# Altium integrated library Micron Memory SDRAM.IntLib: 192 symbols (part 13 of 38)
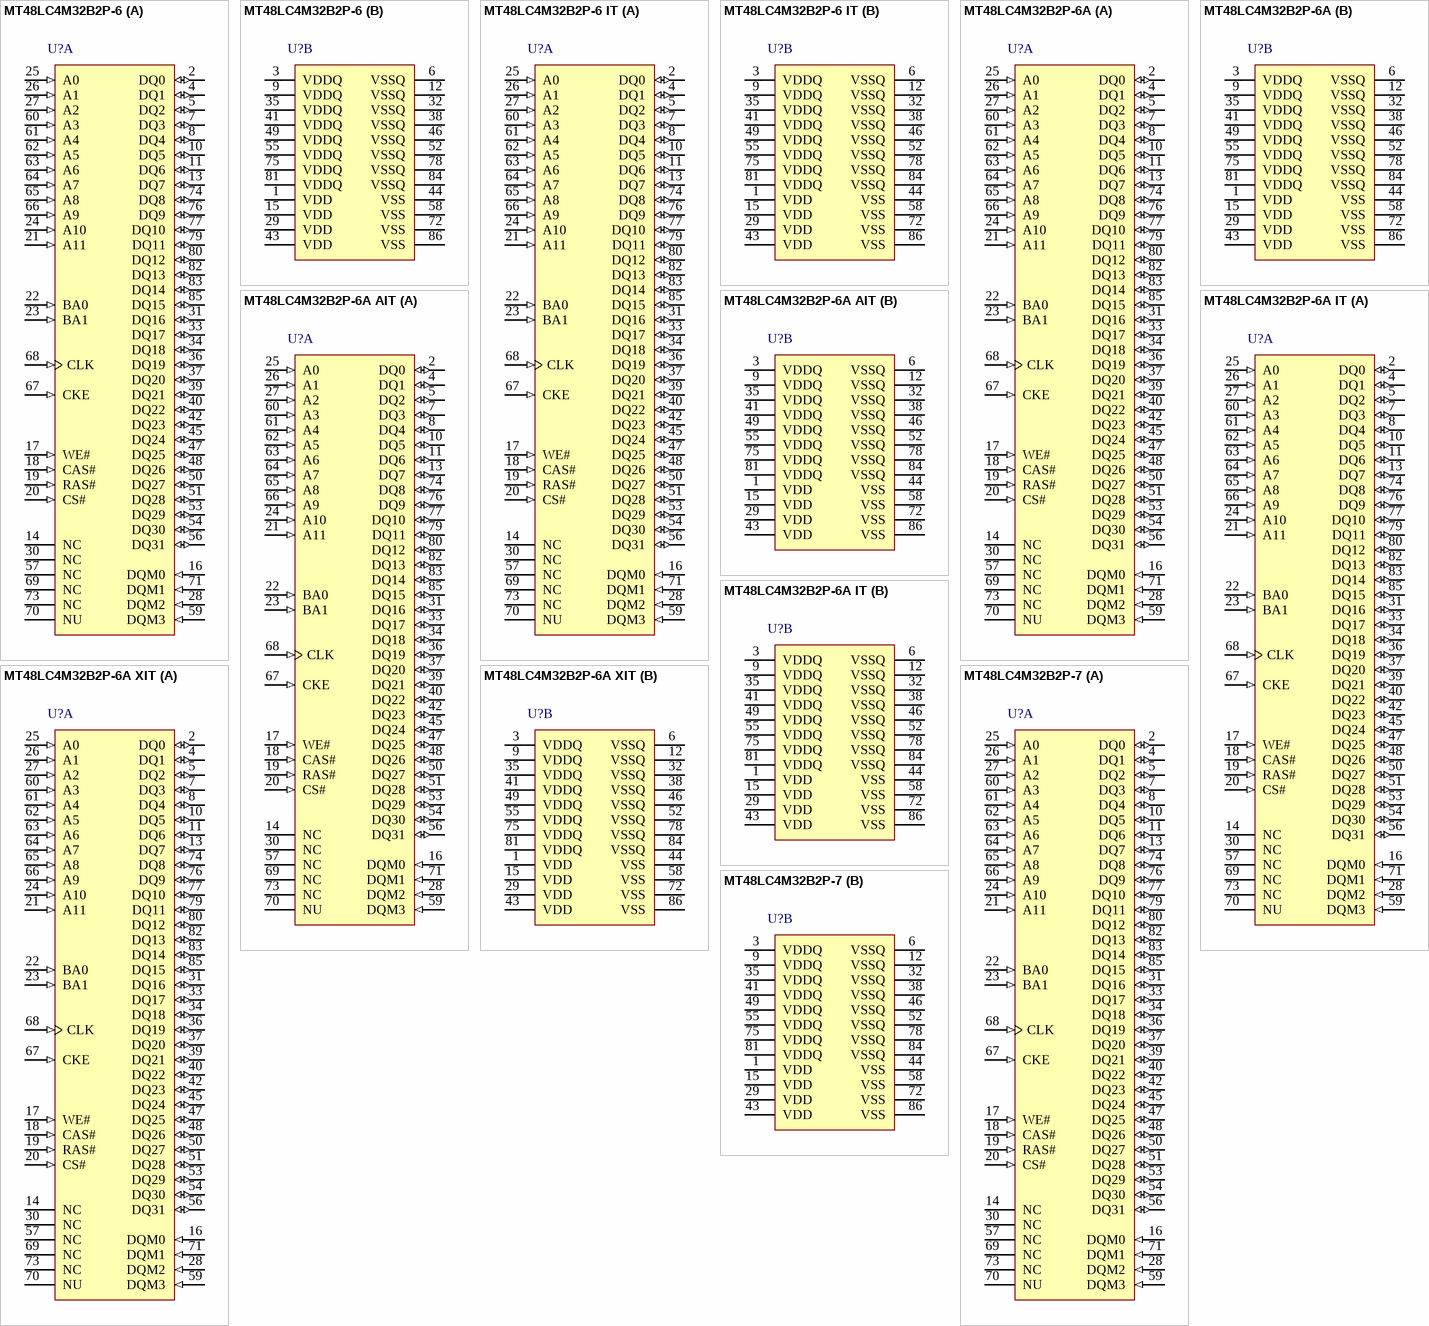
[diagram p32: symbols MT48LC4M32B2P-6 to MT48LC4M32B2P-7]

## MT48LC4M32B2P-6
designator U?
128Mb PC133 SDR SDRAM, 4Mb x 32, 6ns, 3.3V, 0 to 70 degC, 86-Pin TSOP, Pb-Free; Manufacturer: Micron; PartNumber: MT48LC4M32B2P-6; CL: CL = 3; Clock Rate: 167 MHz; Op. Temp.: 0C to +70C; DatasheetVersion: Rev.Q; PackageVersion: Rev.Q; PackageReference: MICT-P-86; PackageDescription: 86-PinThin Small Outline Package, 10.16 x 22.22 mm, Pitch 0.5 mm; Cycle Time: 6ns; Data Rate: PC133; Density: 128Mb; Depth: 4Mb; RoHS: Yes; Voltage: 3.3V; Width: x32; Mounting Technology: Surface Mount; ComponentLink1Description: Manufacturer URL; ComponentLink1URL: http://www.micron.com/; ComponentLink2Description: Datasheet; ComponentLink2URL: http://www.micron.com/~/media/Documents/Products/Data%20Sheet/DRAM/128mb_x32_sdram.pdf; ComponentLink3Description: Package Specification; ComponentLink3URL: http://www.micron.com/~/media/Documents/Products/Data%20Sheet/DRAM/128mb_x32_sdram.pdf
footprint MICT-P-86_N (SOP, 86-Leads, Body 22.22x10.6mm, Pitch 0.5mm, , IPC Medium Density)
part A pins: 2 DQ0 (io) "Data input/output: Data bus.", 4 DQ1 (io) "Data input/output: Data bus.", 5 DQ2 (io) "Data input/output: Data bus.", 7 DQ3 (io) "Data input/output: Data bus.", 8 DQ4 (io) "Data input/output: Data bus.", 10 DQ5 (io) "Data input/output: Data bus.", 11 DQ6 (io) "Data input/output: Data bus.", 13 DQ7 (io) "Data input/output: Data bus.", 14 NC "No connect: These pins should be left unconnected. Pin 70 is reserved for SSTL reference voltage supply.", 16 DQM0 (in) "Input/output mask: DQM is sampled HIGH and is an input mask signal for write accesses and an output enable signal for read accesses. Input data is masked during a WRITE cycle. The output buffers are High-Z (two-clock (See Datasheet)", 17 WE# (in) "Command inputs: CAS#, RAS#, and WE# (along with CS#) define the command being entered.", 18 CAS# (in) "Command inputs: CAS#, RAS#, and WE# (along with CS#) define the command being entered.", 19 RAS# (in) "Command inputs: CAS#, RAS#, and WE# (along with CS#) define the command being entered.", 20 CS# (in) "Command inputs: CAS#, RAS#, and WE# (along with CS#) define the command being entered.", 21 A11 (in) "Address inputs: A[11:0] are sampled during the ACTIVE command (row address A[10:0]) and READ or WRITE command (column address A[7:0] with A10 defining auto precharge) to select one location out of the memory array in the (See Datasheet)", 22 BA0 (in) "Bank address inputs: BA[1:0] define to which bank the ACTIVE, READ, WRITE, or PRECHARGE command is being applied.", 23 BA1 (in) "Bank address inputs: BA[1:0] define to which bank the ACTIVE, READ, WRITE, or PRECHARGE command is being applied.", 24 A10 (in) "Address inputs: A[11:0] are sampled during the ACTIVE command (row address A[10:0]) and READ or WRITE command (column address A[7:0] with A10 defining auto precharge) to select one location out of the memory array in the (See Datasheet)", 25 A0 (in) "Address inputs: A[11:0] are sampled during the ACTIVE command (row address A[10:0]) and READ or WRITE command (column address A[7:0] with A10 defining auto precharge) to select one location out of the memory array in the (See Datasheet)", 26 A1 (in) "Address inputs: A[11:0] are sampled during the ACTIVE command (row address A[10:0]) and READ or WRITE command (column address A[7:0] with A10 defining auto precharge) to select one location out of the memory array in the (See Datasheet)", 27 A2 (in) "Address inputs: A[11:0] are sampled during the ACTIVE command (row address A[10:0]) and READ or WRITE command (column address A[7:0] with A10 defining auto precharge) to select one location out of the memory array in the (See Datasheet)", 28 DQM2 (in) "Input/output mask: DQM is sampled HIGH and is an input mask signal for write accesses and an output enable signal for read accesses. Input data is masked during a WRITE cycle. The output buffers are High-Z (two-clock (See Datasheet)", 30 NC "No connect: These pins should be left unconnected. Pin 70 is reserved for SSTL reference voltage supply.", 31 DQ16 (io) "Data input/output: Data bus.", 33 DQ17 (io) "Data input/output: Data bus.", 34 DQ18 (io) "Data input/output: Data bus.", 36 DQ19 (io) "Data input/output: Data bus.", 37 DQ20 (io) "Data input/output: Data bus.", 39 DQ21 (io) "Data input/output: Data bus.", 40 DQ22 (io) "Data input/output: Data bus.", 42 DQ23 (io) "Data input/output: Data bus.", 45 DQ24 (io) "Data input/output: Data bus.", 47 DQ25 (io) "Data input/output: Data bus.", 48 DQ26 (io) "Data input/output: Data bus.", 50 DQ27 (io) "Data input/output: Data bus.", 51 DQ28 (io) "Data input/output: Data bus.", 53 DQ29 (io) "Data input/output: Data bus.", 54 DQ30 (io) "Data input/output: Data bus.", 56 DQ31 (io) "Data input/output: Data bus.", 57 NC "No connect: These pins should be left unconnected. Pin 70 is reserved for SSTL reference voltage supply.", 59 DQM3 (in) "Input/output mask: DQM is sampled HIGH and is an input mask signal for write accesses and an output enable signal for read accesses. Input data is masked during a WRITE cycle. The output buffers are High-Z (two-clock (See Datasheet)", 60 A3 (in) "Address inputs: A[11:0] are sampled during the ACTIVE command (row address A[10:0]) and READ or WRITE command (column address A[7:0] with A10 defining auto precharge) to select one location out of the memory array in the (See Datasheet)", 61 A4 (in) "Address inputs: A[11:0] are sampled during the ACTIVE command (row address A[10:0]) and READ or WRITE command (column address A[7:0] with A10 defining auto precharge) to select one location out of the memory array in the (See Datasheet)", 62 A5 (in) "Address inputs: A[11:0] are sampled during the ACTIVE command (row address A[10:0]) and READ or WRITE command (column address A[7:0] with A10 defining auto precharge) to select one location out of the memory array in the (See Datasheet)", 63 A6 (in) "Address inputs: A[11:0] are sampled during the ACTIVE command (row address A[10:0]) and READ or WRITE command (column address A[7:0] with A10 defining auto precharge) to select one location out of the memory array in the (See Datasheet)", 64 A7 (in) "Address inputs: A[11:0] are sampled during the ACTIVE command (row address A[10:0]) and READ or WRITE command (column address A[7:0] with A10 defining auto precharge) to select one location out of the memory array in the (See Datasheet)", 65 A8 (in) "Address inputs: A[11:0] are sampled during the ACTIVE command (row address A[10:0]) and READ or WRITE command (column address A[7:0] with A10 defining auto precharge) to select one location out of the memory array in the (See Datasheet)", 66 A9 (in) "Address inputs: A[11:0] are sampled during the ACTIVE command (row address A[10:0]) and READ or WRITE command (column address A[7:0] with A10 defining auto precharge) to select one location out of the memory array in the (See Datasheet)", 67 CKE (in) "Clock enable: CKE activates (HIGH) and deactivates (LOW) the CLK signal. Deactivating the clock provides precharge power-down and SELF REFRESH operation (all banks idle), active power-down (row active in any bank), or CLOCK (See Datasheet)", 68 CLK (in) "Clock: CLK is driven by the system clock. All SDRAM input signals are sampled on the positive edge of CLK. CLK also increments the internal burst counter and controls the output registers.", 69 NC "No connect: These pins should be left unconnected. Pin 70 is reserved for SSTL reference voltage supply.", 70 NU "Not Used", 71 DQM1 (in) "Input/output mask: DQM is sampled HIGH and is an input mask signal for write accesses and an output enable signal for read accesses. Input data is masked during a WRITE cycle. The output buffers are High-Z (two-clock (See Datasheet)", 73 NC "No connect: These pins should be left unconnected. Pin 70 is reserved for SSTL reference voltage supply.", 74 DQ8 (io) "Data input/output: Data bus.", 76 DQ9 (io) "Data input/output: Data bus.", 77 DQ10 (io) "Data input/output: Data bus.", 79 DQ11 (io) "Data input/output: Data bus.", 80 DQ12 (io) "Data input/output: Data bus.", 82 DQ13 (io) "Data input/output: Data bus.", 83 DQ14 (io) "Data input/output: Data bus.", 85 DQ15 (io) "Data input/output: Data bus."
part B pins: 1 VDD (power) "Power supply: 3.3V +/-0.3V.", 3 VDDQ (power) "DQ power supply: Isolated on the die for improved noise immunity.", 6 VSSQ (power) "DQ ground: Provides isolated ground to DQs for improved noise immunity.", 9 VDDQ (power) "DQ power supply: Isolated on the die for improved noise immunity.", 12 VSSQ (power) "DQ ground: Provides isolated ground to DQs for improved noise immunity.", 15 VDD (power) "Power supply: 3.3V +/-0.3V.", 29 VDD (power) "Power supply: 3.3V +/-0.3V.", 32 VSSQ (power) "DQ ground: Provides isolated ground to DQs for improved noise immunity.", 35 VDDQ (power) "DQ power supply: Isolated on the die for improved noise immunity.", 38 VSSQ (power) "DQ ground: Provides isolated ground to DQs for improved noise immunity.", 41 VDDQ (power) "DQ power supply: Isolated on the die for improved noise immunity.", 43 VDD (power) "Power supply: 3.3V +/-0.3V.", 44 VSS (power) "Ground.", 46 VSSQ (power) "DQ ground: Provides isolated ground to DQs for improved noise immunity.", 49 VDDQ (power) "DQ power supply: Isolated on the die for improved noise immunity.", 52 VSSQ (power) "DQ ground: Provides isolated ground to DQs for improved noise immunity.", 55 VDDQ (power) "DQ power supply: Isolated on the die for improved noise immunity.", 58 VSS (power) "Ground.", 72 VSS (power) "Ground.", 75 VDDQ (power) "DQ power supply: Isolated on the die for improved noise immunity.", 78 VSSQ (power) "DQ ground: Provides isolated ground to DQs for improved noise immunity.", 81 VDDQ (power) "DQ power supply: Isolated on the die for improved noise immunity.", 84 VSSQ (power) "DQ ground: Provides isolated ground to DQs for improved noise immunity.", 86 VSS (power) "Ground."

## MT48LC4M32B2P-6 IT
designator U?
128Mb PC133 SDR SDRAM, 4Mb x 32, 6ns, 3.3V, -40 to 85 degC, 86-Pin TSOP, Pb-Free; Manufacturer: Micron; PartNumber: MT48LC4M32B2P-6 IT; CL: CL = 3; Clock Rate: 166 MHz; Op. Temp.: -40C to +85C; DatasheetVersion: Rev.Q; PackageVersion: Rev.Q; PackageReference: MICT-P-86; PackageDescription: 86-PinThin Small Outline Package, 10.16 x 22.22 mm, Pitch 0.5 mm; Cycle Time: 6ns; Data Rate: PC133; Density: 128Mb; Depth: 4Mb; RoHS: Yes; Voltage: 3.3V; Width: x32; Mounting Technology: Surface Mount; ComponentLink1Description: Manufacturer URL; ComponentLink1URL: http://www.micron.com/; ComponentLink2Description: Datasheet; ComponentLink2URL: http://www.micron.com/~/media/Documents/Products/Data%20Sheet/DRAM/128mb_x32_sdram.pdf; ComponentLink3Description: Package Specification; ComponentLink3URL: http://www.micron.com/~/media/Documents/Products/Data%20Sheet/DRAM/128mb_x32_sdram.pdf
footprint MICT-P-86_N (SOP, 86-Leads, Body 22.22x10.6mm, Pitch 0.5mm, , IPC Medium Density)
part A pins: 2 DQ0 (io) "Data input/output: Data bus.", 4 DQ1 (io) "Data input/output: Data bus.", 5 DQ2 (io) "Data input/output: Data bus.", 7 DQ3 (io) "Data input/output: Data bus.", 8 DQ4 (io) "Data input/output: Data bus.", 10 DQ5 (io) "Data input/output: Data bus.", 11 DQ6 (io) "Data input/output: Data bus.", 13 DQ7 (io) "Data input/output: Data bus.", 14 NC "No connect: These pins should be left unconnected. Pin 70 is reserved for SSTL reference voltage supply.", 16 DQM0 (in) "Input/output mask: DQM is sampled HIGH and is an input mask signal for write accesses and an output enable signal for read accesses. Input data is masked during a WRITE cycle. The output buffers are High-Z (two-clock (See Datasheet)", 17 WE# (in) "Command inputs: CAS#, RAS#, and WE# (along with CS#) define the command being entered.", 18 CAS# (in) "Command inputs: CAS#, RAS#, and WE# (along with CS#) define the command being entered.", 19 RAS# (in) "Command inputs: CAS#, RAS#, and WE# (along with CS#) define the command being entered.", 20 CS# (in) "Command inputs: CAS#, RAS#, and WE# (along with CS#) define the command being entered.", 21 A11 (in) "Address inputs: A[11:0] are sampled during the ACTIVE command (row address A[10:0]) and READ or WRITE command (column address A[7:0] with A10 defining auto precharge) to select one location out of the memory array in the (See Datasheet)", 22 BA0 (in) "Bank address inputs: BA[1:0] define to which bank the ACTIVE, READ, WRITE, or PRECHARGE command is being applied.", 23 BA1 (in) "Bank address inputs: BA[1:0] define to which bank the ACTIVE, READ, WRITE, or PRECHARGE command is being applied.", 24 A10 (in) "Address inputs: A[11:0] are sampled during the ACTIVE command (row address A[10:0]) and READ or WRITE command (column address A[7:0] with A10 defining auto precharge) to select one location out of the memory array in the (See Datasheet)", 25 A0 (in) "Address inputs: A[11:0] are sampled during the ACTIVE command (row address A[10:0]) and READ or WRITE command (column address A[7:0] with A10 defining auto precharge) to select one location out of the memory array in the (See Datasheet)", 26 A1 (in) "Address inputs: A[11:0] are sampled during the ACTIVE command (row address A[10:0]) and READ or WRITE command (column address A[7:0] with A10 defining auto precharge) to select one location out of the memory array in the (See Datasheet)", 27 A2 (in) "Address inputs: A[11:0] are sampled during the ACTIVE command (row address A[10:0]) and READ or WRITE command (column address A[7:0] with A10 defining auto precharge) to select one location out of the memory array in the (See Datasheet)", 28 DQM2 (in) "Input/output mask: DQM is sampled HIGH and is an input mask signal for write accesses and an output enable signal for read accesses. Input data is masked during a WRITE cycle. The output buffers are High-Z (two-clock (See Datasheet)", 30 NC "No connect: These pins should be left unconnected. Pin 70 is reserved for SSTL reference voltage supply.", 31 DQ16 (io) "Data input/output: Data bus.", 33 DQ17 (io) "Data input/output: Data bus.", 34 DQ18 (io) "Data input/output: Data bus.", 36 DQ19 (io) "Data input/output: Data bus.", 37 DQ20 (io) "Data input/output: Data bus.", 39 DQ21 (io) "Data input/output: Data bus.", 40 DQ22 (io) "Data input/output: Data bus.", 42 DQ23 (io) "Data input/output: Data bus.", 45 DQ24 (io) "Data input/output: Data bus.", 47 DQ25 (io) "Data input/output: Data bus.", 48 DQ26 (io) "Data input/output: Data bus.", 50 DQ27 (io) "Data input/output: Data bus.", 51 DQ28 (io) "Data input/output: Data bus.", 53 DQ29 (io) "Data input/output: Data bus.", 54 DQ30 (io) "Data input/output: Data bus.", 56 DQ31 (io) "Data input/output: Data bus.", 57 NC "No connect: These pins should be left unconnected. Pin 70 is reserved for SSTL reference voltage supply.", 59 DQM3 (in) "Input/output mask: DQM is sampled HIGH and is an input mask signal for write accesses and an output enable signal for read accesses. Input data is masked during a WRITE cycle. The output buffers are High-Z (two-clock (See Datasheet)", 60 A3 (in) "Address inputs: A[11:0] are sampled during the ACTIVE command (row address A[10:0]) and READ or WRITE command (column address A[7:0] with A10 defining auto precharge) to select one location out of the memory array in the (See Datasheet)", 61 A4 (in) "Address inputs: A[11:0] are sampled during the ACTIVE command (row address A[10:0]) and READ or WRITE command (column address A[7:0] with A10 defining auto precharge) to select one location out of the memory array in the (See Datasheet)", 62 A5 (in) "Address inputs: A[11:0] are sampled during the ACTIVE command (row address A[10:0]) and READ or WRITE command (column address A[7:0] with A10 defining auto precharge) to select one location out of the memory array in the (See Datasheet)", 63 A6 (in) "Address inputs: A[11:0] are sampled during the ACTIVE command (row address A[10:0]) and READ or WRITE command (column address A[7:0] with A10 defining auto precharge) to select one location out of the memory array in the (See Datasheet)", 64 A7 (in) "Address inputs: A[11:0] are sampled during the ACTIVE command (row address A[10:0]) and READ or WRITE command (column address A[7:0] with A10 defining auto precharge) to select one location out of the memory array in the (See Datasheet)", 65 A8 (in) "Address inputs: A[11:0] are sampled during the ACTIVE command (row address A[10:0]) and READ or WRITE command (column address A[7:0] with A10 defining auto precharge) to select one location out of the memory array in the (See Datasheet)", 66 A9 (in) "Address inputs: A[11:0] are sampled during the ACTIVE command (row address A[10:0]) and READ or WRITE command (column address A[7:0] with A10 defining auto precharge) to select one location out of the memory array in the (See Datasheet)", 67 CKE (in) "Clock enable: CKE activates (HIGH) and deactivates (LOW) the CLK signal. Deactivating the clock provides precharge power-down and SELF REFRESH operation (all banks idle), active power-down (row active in any bank), or CLOCK (See Datasheet)", 68 CLK (in) "Clock: CLK is driven by the system clock. All SDRAM input signals are sampled on the positive edge of CLK. CLK also increments the internal burst counter and controls the output registers.", 69 NC "No connect: These pins should be left unconnected. Pin 70 is reserved for SSTL reference voltage supply.", 70 NU "Not Used", 71 DQM1 (in) "Input/output mask: DQM is sampled HIGH and is an input mask signal for write accesses and an output enable signal for read accesses. Input data is masked during a WRITE cycle. The output buffers are High-Z (two-clock (See Datasheet)", 73 NC "No connect: These pins should be left unconnected. Pin 70 is reserved for SSTL reference voltage supply.", 74 DQ8 (io) "Data input/output: Data bus.", 76 DQ9 (io) "Data input/output: Data bus.", 77 DQ10 (io) "Data input/output: Data bus.", 79 DQ11 (io) "Data input/output: Data bus.", 80 DQ12 (io) "Data input/output: Data bus.", 82 DQ13 (io) "Data input/output: Data bus.", 83 DQ14 (io) "Data input/output: Data bus.", 85 DQ15 (io) "Data input/output: Data bus."
part B pins: 1 VDD (power) "Power supply: 3.3V +/-0.3V.", 3 VDDQ (power) "DQ power supply: Isolated on the die for improved noise immunity.", 6 VSSQ (power) "DQ ground: Provides isolated ground to DQs for improved noise immunity.", 9 VDDQ (power) "DQ power supply: Isolated on the die for improved noise immunity.", 12 VSSQ (power) "DQ ground: Provides isolated ground to DQs for improved noise immunity.", 15 VDD (power) "Power supply: 3.3V +/-0.3V.", 29 VDD (power) "Power supply: 3.3V +/-0.3V.", 32 VSSQ (power) "DQ ground: Provides isolated ground to DQs for improved noise immunity.", 35 VDDQ (power) "DQ power supply: Isolated on the die for improved noise immunity.", 38 VSSQ (power) "DQ ground: Provides isolated ground to DQs for improved noise immunity.", 41 VDDQ (power) "DQ power supply: Isolated on the die for improved noise immunity.", 43 VDD (power) "Power supply: 3.3V +/-0.3V.", 44 VSS (power) "Ground.", 46 VSSQ (power) "DQ ground: Provides isolated ground to DQs for improved noise immunity.", 49 VDDQ (power) "DQ power supply: Isolated on the die for improved noise immunity.", 52 VSSQ (power) "DQ ground: Provides isolated ground to DQs for improved noise immunity.", 55 VDDQ (power) "DQ power supply: Isolated on the die for improved noise immunity.", 58 VSS (power) "Ground.", 72 VSS (power) "Ground.", 75 VDDQ (power) "DQ power supply: Isolated on the die for improved noise immunity.", 78 VSSQ (power) "DQ ground: Provides isolated ground to DQs for improved noise immunity.", 81 VDDQ (power) "DQ power supply: Isolated on the die for improved noise immunity.", 84 VSSQ (power) "DQ ground: Provides isolated ground to DQs for improved noise immunity.", 86 VSS (power) "Ground."

## MT48LC4M32B2P-6A
designator U?
128Mb PC133 SDR SDRAM, 4Mb x 32, 6ns, 3.3V, 0 to 70 degC, 86-Pin TSOP, Pb-Free; Manufacturer: Micron; PartNumber: MT48LC4M32B2P-6A; CL: CL = 3; Clock Rate: 166 MHz; Op. Temp.: 0C to +70C; DatasheetVersion: Rev.Q; PackageVersion: Rev.Q; PackageReference: MICT-P-86; PackageDescription: 86-PinThin Small Outline Package, 10.16 x 22.22 mm, Pitch 0.5 mm; Cycle Time: 6ns; Data Rate: PC133; Density: 128Mb; Depth: 4Mb; RoHS: Yes; Voltage: 3.3V; Width: x32; Mounting Technology: Surface Mount; ComponentLink1Description: Manufacturer URL; ComponentLink1URL: http://www.micron.com/; ComponentLink2Description: Datasheet; ComponentLink2URL: http://www.micron.com/~/media/Documents/Products/Data%20Sheet/DRAM/128mb_x32_sdram.pdf; ComponentLink3Description: Package Specification; ComponentLink3URL: http://www.micron.com/~/media/Documents/Products/Data%20Sheet/DRAM/128mb_x32_sdram.pdf
footprint MICT-P-86_N (SOP, 86-Leads, Body 22.22x10.6mm, Pitch 0.5mm, , IPC Medium Density)
part A pins: 2 DQ0 (io) "Data input/output: Data bus.", 4 DQ1 (io) "Data input/output: Data bus.", 5 DQ2 (io) "Data input/output: Data bus.", 7 DQ3 (io) "Data input/output: Data bus.", 8 DQ4 (io) "Data input/output: Data bus.", 10 DQ5 (io) "Data input/output: Data bus.", 11 DQ6 (io) "Data input/output: Data bus.", 13 DQ7 (io) "Data input/output: Data bus.", 14 NC "No connect: These pins should be left unconnected. Pin 70 is reserved for SSTL reference voltage supply.", 16 DQM0 (in) "Input/output mask: DQM is sampled HIGH and is an input mask signal for write accesses and an output enable signal for read accesses. Input data is masked during a WRITE cycle. The output buffers are High-Z (two-clock (See Datasheet)", 17 WE# (in) "Command inputs: CAS#, RAS#, and WE# (along with CS#) define the command being entered.", 18 CAS# (in) "Command inputs: CAS#, RAS#, and WE# (along with CS#) define the command being entered.", 19 RAS# (in) "Command inputs: CAS#, RAS#, and WE# (along with CS#) define the command being entered.", 20 CS# (in) "Command inputs: CAS#, RAS#, and WE# (along with CS#) define the command being entered.", 21 A11 (in) "Address inputs: A[11:0] are sampled during the ACTIVE command (row address A[10:0]) and READ or WRITE command (column address A[7:0] with A10 defining auto precharge) to select one location out of the memory array in the (See Datasheet)", 22 BA0 (in) "Bank address inputs: BA[1:0] define to which bank the ACTIVE, READ, WRITE, or PRECHARGE command is being applied.", 23 BA1 (in) "Bank address inputs: BA[1:0] define to which bank the ACTIVE, READ, WRITE, or PRECHARGE command is being applied.", 24 A10 (in) "Address inputs: A[11:0] are sampled during the ACTIVE command (row address A[10:0]) and READ or WRITE command (column address A[7:0] with A10 defining auto precharge) to select one location out of the memory array in the (See Datasheet)", 25 A0 (in) "Address inputs: A[11:0] are sampled during the ACTIVE command (row address A[10:0]) and READ or WRITE command (column address A[7:0] with A10 defining auto precharge) to select one location out of the memory array in the (See Datasheet)", 26 A1 (in) "Address inputs: A[11:0] are sampled during the ACTIVE command (row address A[10:0]) and READ or WRITE command (column address A[7:0] with A10 defining auto precharge) to select one location out of the memory array in the (See Datasheet)", 27 A2 (in) "Address inputs: A[11:0] are sampled during the ACTIVE command (row address A[10:0]) and READ or WRITE command (column address A[7:0] with A10 defining auto precharge) to select one location out of the memory array in the (See Datasheet)", 28 DQM2 (in) "Input/output mask: DQM is sampled HIGH and is an input mask signal for write accesses and an output enable signal for read accesses. Input data is masked during a WRITE cycle. The output buffers are High-Z (two-clock (See Datasheet)", 30 NC "No connect: These pins should be left unconnected. Pin 70 is reserved for SSTL reference voltage supply.", 31 DQ16 (io) "Data input/output: Data bus.", 33 DQ17 (io) "Data input/output: Data bus.", 34 DQ18 (io) "Data input/output: Data bus.", 36 DQ19 (io) "Data input/output: Data bus.", 37 DQ20 (io) "Data input/output: Data bus.", 39 DQ21 (io) "Data input/output: Data bus.", 40 DQ22 (io) "Data input/output: Data bus.", 42 DQ23 (io) "Data input/output: Data bus.", 45 DQ24 (io) "Data input/output: Data bus.", 47 DQ25 (io) "Data input/output: Data bus.", 48 DQ26 (io) "Data input/output: Data bus.", 50 DQ27 (io) "Data input/output: Data bus.", 51 DQ28 (io) "Data input/output: Data bus.", 53 DQ29 (io) "Data input/output: Data bus.", 54 DQ30 (io) "Data input/output: Data bus.", 56 DQ31 (io) "Data input/output: Data bus.", 57 NC "No connect: These pins should be left unconnected. Pin 70 is reserved for SSTL reference voltage supply.", 59 DQM3 (in) "Input/output mask: DQM is sampled HIGH and is an input mask signal for write accesses and an output enable signal for read accesses. Input data is masked during a WRITE cycle. The output buffers are High-Z (two-clock (See Datasheet)", 60 A3 (in) "Address inputs: A[11:0] are sampled during the ACTIVE command (row address A[10:0]) and READ or WRITE command (column address A[7:0] with A10 defining auto precharge) to select one location out of the memory array in the (See Datasheet)", 61 A4 (in) "Address inputs: A[11:0] are sampled during the ACTIVE command (row address A[10:0]) and READ or WRITE command (column address A[7:0] with A10 defining auto precharge) to select one location out of the memory array in the (See Datasheet)", 62 A5 (in) "Address inputs: A[11:0] are sampled during the ACTIVE command (row address A[10:0]) and READ or WRITE command (column address A[7:0] with A10 defining auto precharge) to select one location out of the memory array in the (See Datasheet)", 63 A6 (in) "Address inputs: A[11:0] are sampled during the ACTIVE command (row address A[10:0]) and READ or WRITE command (column address A[7:0] with A10 defining auto precharge) to select one location out of the memory array in the (See Datasheet)", 64 A7 (in) "Address inputs: A[11:0] are sampled during the ACTIVE command (row address A[10:0]) and READ or WRITE command (column address A[7:0] with A10 defining auto precharge) to select one location out of the memory array in the (See Datasheet)", 65 A8 (in) "Address inputs: A[11:0] are sampled during the ACTIVE command (row address A[10:0]) and READ or WRITE command (column address A[7:0] with A10 defining auto precharge) to select one location out of the memory array in the (See Datasheet)", 66 A9 (in) "Address inputs: A[11:0] are sampled during the ACTIVE command (row address A[10:0]) and READ or WRITE command (column address A[7:0] with A10 defining auto precharge) to select one location out of the memory array in the (See Datasheet)", 67 CKE (in) "Clock enable: CKE activates (HIGH) and deactivates (LOW) the CLK signal. Deactivating the clock provides precharge power-down and SELF REFRESH operation (all banks idle), active power-down (row active in any bank), or CLOCK (See Datasheet)", 68 CLK (in) "Clock: CLK is driven by the system clock. All SDRAM input signals are sampled on the positive edge of CLK. CLK also increments the internal burst counter and controls the output registers.", 69 NC "No connect: These pins should be left unconnected. Pin 70 is reserved for SSTL reference voltage supply.", 70 NU "Not Used", 71 DQM1 (in) "Input/output mask: DQM is sampled HIGH and is an input mask signal for write accesses and an output enable signal for read accesses. Input data is masked during a WRITE cycle. The output buffers are High-Z (two-clock (See Datasheet)", 73 NC "No connect: These pins should be left unconnected. Pin 70 is reserved for SSTL reference voltage supply.", 74 DQ8 (io) "Data input/output: Data bus.", 76 DQ9 (io) "Data input/output: Data bus.", 77 DQ10 (io) "Data input/output: Data bus.", 79 DQ11 (io) "Data input/output: Data bus.", 80 DQ12 (io) "Data input/output: Data bus.", 82 DQ13 (io) "Data input/output: Data bus.", 83 DQ14 (io) "Data input/output: Data bus.", 85 DQ15 (io) "Data input/output: Data bus."
part B pins: 1 VDD (power) "Power supply: 3.3V +/-0.3V.", 3 VDDQ (power) "DQ power supply: Isolated on the die for improved noise immunity.", 6 VSSQ (power) "DQ ground: Provides isolated ground to DQs for improved noise immunity.", 9 VDDQ (power) "DQ power supply: Isolated on the die for improved noise immunity.", 12 VSSQ (power) "DQ ground: Provides isolated ground to DQs for improved noise immunity.", 15 VDD (power) "Power supply: 3.3V +/-0.3V.", 29 VDD (power) "Power supply: 3.3V +/-0.3V.", 32 VSSQ (power) "DQ ground: Provides isolated ground to DQs for improved noise immunity.", 35 VDDQ (power) "DQ power supply: Isolated on the die for improved noise immunity.", 38 VSSQ (power) "DQ ground: Provides isolated ground to DQs for improved noise immunity.", 41 VDDQ (power) "DQ power supply: Isolated on the die for improved noise immunity.", 43 VDD (power) "Power supply: 3.3V +/-0.3V.", 44 VSS (power) "Ground.", 46 VSSQ (power) "DQ ground: Provides isolated ground to DQs for improved noise immunity.", 49 VDDQ (power) "DQ power supply: Isolated on the die for improved noise immunity.", 52 VSSQ (power) "DQ ground: Provides isolated ground to DQs for improved noise immunity.", 55 VDDQ (power) "DQ power supply: Isolated on the die for improved noise immunity.", 58 VSS (power) "Ground.", 72 VSS (power) "Ground.", 75 VDDQ (power) "DQ power supply: Isolated on the die for improved noise immunity.", 78 VSSQ (power) "DQ ground: Provides isolated ground to DQs for improved noise immunity.", 81 VDDQ (power) "DQ power supply: Isolated on the die for improved noise immunity.", 84 VSSQ (power) "DQ ground: Provides isolated ground to DQs for improved noise immunity.", 86 VSS (power) "Ground."

## MT48LC4M32B2P-6A AIT
designator U?
128Mb PC133 SDR SDRAM, 4Mb x 32, 6ns, 3.3V, -40 to 85 degC, 86-Pin TSOP, Pb-Free; Manufacturer: Micron; PartNumber: MT48LC4M32B2P-6A AIT; CL: CL = 3; Clock Rate: 166 MHz; Op. Temp.: -40C to +85C; PackageVersion: Rev.Q; PackageReference: MICT-P-86; PackageDescription: 86-PinThin Small Outline Package, 10.16 x 22.22 mm, Pitch 0.5 mm; Cycle Time: 6ns; Data Rate: PC133; Density: 128Mb; Depth: 4Mb; RoHS: Yes; Voltage: 3.3V; Width: x32; Mounting Technology: Surface Mount; ComponentLink1Description: Manufacturer URL; ComponentLink1URL: http://www.micron.com/; ComponentLink2Description: Package Specification; ComponentLink2URL: http://www.micron.com/~/media/Documents/Products/Data%20Sheet/DRAM/128mb_x32_sdram.pdf
footprint MICT-P-86_N (SOP, 86-Leads, Body 22.22x10.6mm, Pitch 0.5mm, , IPC Medium Density)
part A pins: 2 DQ0 (io) "Data input/output: Data bus.", 4 DQ1 (io) "Data input/output: Data bus.", 5 DQ2 (io) "Data input/output: Data bus.", 7 DQ3 (io) "Data input/output: Data bus.", 8 DQ4 (io) "Data input/output: Data bus.", 10 DQ5 (io) "Data input/output: Data bus.", 11 DQ6 (io) "Data input/output: Data bus.", 13 DQ7 (io) "Data input/output: Data bus.", 14 NC "No connect: These pins should be left unconnected. Pin 70 is reserved for SSTL reference voltage supply.", 16 DQM0 (in) "Input/output mask: DQM is sampled HIGH and is an input mask signal for write accesses and an output enable signal for read accesses. Input data is masked during a WRITE cycle. The output buffers are High-Z (two-clock (See Datasheet)", 17 WE# (in) "Command inputs: CAS#, RAS#, and WE# (along with CS#) define the command being entered.", 18 CAS# (in) "Command inputs: CAS#, RAS#, and WE# (along with CS#) define the command being entered.", 19 RAS# (in) "Command inputs: CAS#, RAS#, and WE# (along with CS#) define the command being entered.", 20 CS# (in) "Command inputs: CAS#, RAS#, and WE# (along with CS#) define the command being entered.", 21 A11 (in) "Address inputs: A[11:0] are sampled during the ACTIVE command (row address A[10:0]) and READ or WRITE command (column address A[7:0] with A10 defining auto precharge) to select one location out of the memory array in the (See Datasheet)", 22 BA0 (in) "Bank address inputs: BA[1:0] define to which bank the ACTIVE, READ, WRITE, or PRECHARGE command is being applied.", 23 BA1 (in) "Bank address inputs: BA[1:0] define to which bank the ACTIVE, READ, WRITE, or PRECHARGE command is being applied.", 24 A10 (in) "Address inputs: A[11:0] are sampled during the ACTIVE command (row address A[10:0]) and READ or WRITE command (column address A[7:0] with A10 defining auto precharge) to select one location out of the memory array in the (See Datasheet)", 25 A0 (in) "Address inputs: A[11:0] are sampled during the ACTIVE command (row address A[10:0]) and READ or WRITE command (column address A[7:0] with A10 defining auto precharge) to select one location out of the memory array in the (See Datasheet)", 26 A1 (in) "Address inputs: A[11:0] are sampled during the ACTIVE command (row address A[10:0]) and READ or WRITE command (column address A[7:0] with A10 defining auto precharge) to select one location out of the memory array in the (See Datasheet)", 27 A2 (in) "Address inputs: A[11:0] are sampled during the ACTIVE command (row address A[10:0]) and READ or WRITE command (column address A[7:0] with A10 defining auto precharge) to select one location out of the memory array in the (See Datasheet)", 28 DQM2 (in) "Input/output mask: DQM is sampled HIGH and is an input mask signal for write accesses and an output enable signal for read accesses. Input data is masked during a WRITE cycle. The output buffers are High-Z (two-clock (See Datasheet)", 30 NC "No connect: These pins should be left unconnected. Pin 70 is reserved for SSTL reference voltage supply.", 31 DQ16 (io) "Data input/output: Data bus.", 33 DQ17 (io) "Data input/output: Data bus.", 34 DQ18 (io) "Data input/output: Data bus.", 36 DQ19 (io) "Data input/output: Data bus.", 37 DQ20 (io) "Data input/output: Data bus.", 39 DQ21 (io) "Data input/output: Data bus.", 40 DQ22 (io) "Data input/output: Data bus.", 42 DQ23 (io) "Data input/output: Data bus.", 45 DQ24 (io) "Data input/output: Data bus.", 47 DQ25 (io) "Data input/output: Data bus.", 48 DQ26 (io) "Data input/output: Data bus.", 50 DQ27 (io) "Data input/output: Data bus.", 51 DQ28 (io) "Data input/output: Data bus.", 53 DQ29 (io) "Data input/output: Data bus.", 54 DQ30 (io) "Data input/output: Data bus.", 56 DQ31 (io) "Data input/output: Data bus.", 57 NC "No connect: These pins should be left unconnected. Pin 70 is reserved for SSTL reference voltage supply.", 59 DQM3 (in) "Input/output mask: DQM is sampled HIGH and is an input mask signal for write accesses and an output enable signal for read accesses. Input data is masked during a WRITE cycle. The output buffers are High-Z (two-clock (See Datasheet)", 60 A3 (in) "Address inputs: A[11:0] are sampled during the ACTIVE command (row address A[10:0]) and READ or WRITE command (column address A[7:0] with A10 defining auto precharge) to select one location out of the memory array in the (See Datasheet)", 61 A4 (in) "Address inputs: A[11:0] are sampled during the ACTIVE command (row address A[10:0]) and READ or WRITE command (column address A[7:0] with A10 defining auto precharge) to select one location out of the memory array in the (See Datasheet)", 62 A5 (in) "Address inputs: A[11:0] are sampled during the ACTIVE command (row address A[10:0]) and READ or WRITE command (column address A[7:0] with A10 defining auto precharge) to select one location out of the memory array in the (See Datasheet)", 63 A6 (in) "Address inputs: A[11:0] are sampled during the ACTIVE command (row address A[10:0]) and READ or WRITE command (column address A[7:0] with A10 defining auto precharge) to select one location out of the memory array in the (See Datasheet)", 64 A7 (in) "Address inputs: A[11:0] are sampled during the ACTIVE command (row address A[10:0]) and READ or WRITE command (column address A[7:0] with A10 defining auto precharge) to select one location out of the memory array in the (See Datasheet)", 65 A8 (in) "Address inputs: A[11:0] are sampled during the ACTIVE command (row address A[10:0]) and READ or WRITE command (column address A[7:0] with A10 defining auto precharge) to select one location out of the memory array in the (See Datasheet)", 66 A9 (in) "Address inputs: A[11:0] are sampled during the ACTIVE command (row address A[10:0]) and READ or WRITE command (column address A[7:0] with A10 defining auto precharge) to select one location out of the memory array in the (See Datasheet)", 67 CKE (in) "Clock enable: CKE activates (HIGH) and deactivates (LOW) the CLK signal. Deactivating the clock provides precharge power-down and SELF REFRESH operation (all banks idle), active power-down (row active in any bank), or CLOCK (See Datasheet)", 68 CLK (in) "Clock: CLK is driven by the system clock. All SDRAM input signals are sampled on the positive edge of CLK. CLK also increments the internal burst counter and controls the output registers.", 69 NC "No connect: These pins should be left unconnected. Pin 70 is reserved for SSTL reference voltage supply.", 70 NU "Not Used", 71 DQM1 (in) "Input/output mask: DQM is sampled HIGH and is an input mask signal for write accesses and an output enable signal for read accesses. Input data is masked during a WRITE cycle. The output buffers are High-Z (two-clock (See Datasheet)", 73 NC "No connect: These pins should be left unconnected. Pin 70 is reserved for SSTL reference voltage supply.", 74 DQ8 (io) "Data input/output: Data bus.", 76 DQ9 (io) "Data input/output: Data bus.", 77 DQ10 (io) "Data input/output: Data bus.", 79 DQ11 (io) "Data input/output: Data bus.", 80 DQ12 (io) "Data input/output: Data bus.", 82 DQ13 (io) "Data input/output: Data bus.", 83 DQ14 (io) "Data input/output: Data bus.", 85 DQ15 (io) "Data input/output: Data bus."
part B pins: 1 VDD (power) "Power supply: 3.3V +/-0.3V.", 3 VDDQ (power) "DQ power supply: Isolated on the die for improved noise immunity.", 6 VSSQ (power) "DQ ground: Provides isolated ground to DQs for improved noise immunity.", 9 VDDQ (power) "DQ power supply: Isolated on the die for improved noise immunity.", 12 VSSQ (power) "DQ ground: Provides isolated ground to DQs for improved noise immunity.", 15 VDD (power) "Power supply: 3.3V +/-0.3V.", 29 VDD (power) "Power supply: 3.3V +/-0.3V.", 32 VSSQ (power) "DQ ground: Provides isolated ground to DQs for improved noise immunity.", 35 VDDQ (power) "DQ power supply: Isolated on the die for improved noise immunity.", 38 VSSQ (power) "DQ ground: Provides isolated ground to DQs for improved noise immunity.", 41 VDDQ (power) "DQ power supply: Isolated on the die for improved noise immunity.", 43 VDD (power) "Power supply: 3.3V +/-0.3V.", 44 VSS (power) "Ground.", 46 VSSQ (power) "DQ ground: Provides isolated ground to DQs for improved noise immunity.", 49 VDDQ (power) "DQ power supply: Isolated on the die for improved noise immunity.", 52 VSSQ (power) "DQ ground: Provides isolated ground to DQs for improved noise immunity.", 55 VDDQ (power) "DQ power supply: Isolated on the die for improved noise immunity.", 58 VSS (power) "Ground.", 72 VSS (power) "Ground.", 75 VDDQ (power) "DQ power supply: Isolated on the die for improved noise immunity.", 78 VSSQ (power) "DQ ground: Provides isolated ground to DQs for improved noise immunity.", 81 VDDQ (power) "DQ power supply: Isolated on the die for improved noise immunity.", 84 VSSQ (power) "DQ ground: Provides isolated ground to DQs for improved noise immunity.", 86 VSS (power) "Ground."

## MT48LC4M32B2P-6A IT
designator U?
128Mb PC133 SDR SDRAM, 4Mb x 32, 6ns, 3.3V, -40 to 85 degC, 86-Pin TSOP, Pb-Free; Manufacturer: Micron; PartNumber: MT48LC4M32B2P-6A IT; CL: CL = 3; Clock Rate: 166 MHz; Op. Temp.: -40C to +85C; DatasheetVersion: Rev.Q; PackageVersion: Rev.Q; PackageReference: MICT-P-86; PackageDescription: 86-PinThin Small Outline Package, 10.16 x 22.22 mm, Pitch 0.5 mm; Cycle Time: 6ns; Data Rate: PC133; Density: 128Mb; Depth: 4Mb; RoHS: Yes; Voltage: 3.3V; Width: x32; Mounting Technology: Surface Mount; ComponentLink1Description: Manufacturer URL; ComponentLink1URL: http://www.micron.com/; ComponentLink2Description: Datasheet; ComponentLink2URL: http://www.micron.com/~/media/Documents/Products/Data%20Sheet/DRAM/128mb_x32_sdram.pdf; ComponentLink3Description: Package Specification; ComponentLink3URL: http://www.micron.com/~/media/Documents/Products/Data%20Sheet/DRAM/128mb_x32_sdram.pdf
footprint MICT-P-86_N (SOP, 86-Leads, Body 22.22x10.6mm, Pitch 0.5mm, , IPC Medium Density)
part A pins: 2 DQ0 (io) "Data input/output: Data bus.", 4 DQ1 (io) "Data input/output: Data bus.", 5 DQ2 (io) "Data input/output: Data bus.", 7 DQ3 (io) "Data input/output: Data bus.", 8 DQ4 (io) "Data input/output: Data bus.", 10 DQ5 (io) "Data input/output: Data bus.", 11 DQ6 (io) "Data input/output: Data bus.", 13 DQ7 (io) "Data input/output: Data bus.", 14 NC "No connect: These pins should be left unconnected. Pin 70 is reserved for SSTL reference voltage supply.", 16 DQM0 (in) "Input/output mask: DQM is sampled HIGH and is an input mask signal for write accesses and an output enable signal for read accesses. Input data is masked during a WRITE cycle. The output buffers are High-Z (two-clock (See Datasheet)", 17 WE# (in) "Command inputs: CAS#, RAS#, and WE# (along with CS#) define the command being entered.", 18 CAS# (in) "Command inputs: CAS#, RAS#, and WE# (along with CS#) define the command being entered.", 19 RAS# (in) "Command inputs: CAS#, RAS#, and WE# (along with CS#) define the command being entered.", 20 CS# (in) "Command inputs: CAS#, RAS#, and WE# (along with CS#) define the command being entered.", 21 A11 (in) "Address inputs: A[11:0] are sampled during the ACTIVE command (row address A[10:0]) and READ or WRITE command (column address A[7:0] with A10 defining auto precharge) to select one location out of the memory array in the (See Datasheet)", 22 BA0 (in) "Bank address inputs: BA[1:0] define to which bank the ACTIVE, READ, WRITE, or PRECHARGE command is being applied.", 23 BA1 (in) "Bank address inputs: BA[1:0] define to which bank the ACTIVE, READ, WRITE, or PRECHARGE command is being applied.", 24 A10 (in) "Address inputs: A[11:0] are sampled during the ACTIVE command (row address A[10:0]) and READ or WRITE command (column address A[7:0] with A10 defining auto precharge) to select one location out of the memory array in the (See Datasheet)", 25 A0 (in) "Address inputs: A[11:0] are sampled during the ACTIVE command (row address A[10:0]) and READ or WRITE command (column address A[7:0] with A10 defining auto precharge) to select one location out of the memory array in the (See Datasheet)", 26 A1 (in) "Address inputs: A[11:0] are sampled during the ACTIVE command (row address A[10:0]) and READ or WRITE command (column address A[7:0] with A10 defining auto precharge) to select one location out of the memory array in the (See Datasheet)", 27 A2 (in) "Address inputs: A[11:0] are sampled during the ACTIVE command (row address A[10:0]) and READ or WRITE command (column address A[7:0] with A10 defining auto precharge) to select one location out of the memory array in the (See Datasheet)", 28 DQM2 (in) "Input/output mask: DQM is sampled HIGH and is an input mask signal for write accesses and an output enable signal for read accesses. Input data is masked during a WRITE cycle. The output buffers are High-Z (two-clock (See Datasheet)", 30 NC "No connect: These pins should be left unconnected. Pin 70 is reserved for SSTL reference voltage supply.", 31 DQ16 (io) "Data input/output: Data bus.", 33 DQ17 (io) "Data input/output: Data bus.", 34 DQ18 (io) "Data input/output: Data bus.", 36 DQ19 (io) "Data input/output: Data bus.", 37 DQ20 (io) "Data input/output: Data bus.", 39 DQ21 (io) "Data input/output: Data bus.", 40 DQ22 (io) "Data input/output: Data bus.", 42 DQ23 (io) "Data input/output: Data bus.", 45 DQ24 (io) "Data input/output: Data bus.", 47 DQ25 (io) "Data input/output: Data bus.", 48 DQ26 (io) "Data input/output: Data bus.", 50 DQ27 (io) "Data input/output: Data bus.", 51 DQ28 (io) "Data input/output: Data bus.", 53 DQ29 (io) "Data input/output: Data bus.", 54 DQ30 (io) "Data input/output: Data bus.", 56 DQ31 (io) "Data input/output: Data bus.", 57 NC "No connect: These pins should be left unconnected. Pin 70 is reserved for SSTL reference voltage supply.", 59 DQM3 (in) "Input/output mask: DQM is sampled HIGH and is an input mask signal for write accesses and an output enable signal for read accesses. Input data is masked during a WRITE cycle. The output buffers are High-Z (two-clock (See Datasheet)", 60 A3 (in) "Address inputs: A[11:0] are sampled during the ACTIVE command (row address A[10:0]) and READ or WRITE command (column address A[7:0] with A10 defining auto precharge) to select one location out of the memory array in the (See Datasheet)", 61 A4 (in) "Address inputs: A[11:0] are sampled during the ACTIVE command (row address A[10:0]) and READ or WRITE command (column address A[7:0] with A10 defining auto precharge) to select one location out of the memory array in the (See Datasheet)", 62 A5 (in) "Address inputs: A[11:0] are sampled during the ACTIVE command (row address A[10:0]) and READ or WRITE command (column address A[7:0] with A10 defining auto precharge) to select one location out of the memory array in the (See Datasheet)", 63 A6 (in) "Address inputs: A[11:0] are sampled during the ACTIVE command (row address A[10:0]) and READ or WRITE command (column address A[7:0] with A10 defining auto precharge) to select one location out of the memory array in the (See Datasheet)", 64 A7 (in) "Address inputs: A[11:0] are sampled during the ACTIVE command (row address A[10:0]) and READ or WRITE command (column address A[7:0] with A10 defining auto precharge) to select one location out of the memory array in the (See Datasheet)", 65 A8 (in) "Address inputs: A[11:0] are sampled during the ACTIVE command (row address A[10:0]) and READ or WRITE command (column address A[7:0] with A10 defining auto precharge) to select one location out of the memory array in the (See Datasheet)", 66 A9 (in) "Address inputs: A[11:0] are sampled during the ACTIVE command (row address A[10:0]) and READ or WRITE command (column address A[7:0] with A10 defining auto precharge) to select one location out of the memory array in the (See Datasheet)", 67 CKE (in) "Clock enable: CKE activates (HIGH) and deactivates (LOW) the CLK signal. Deactivating the clock provides precharge power-down and SELF REFRESH operation (all banks idle), active power-down (row active in any bank), or CLOCK (See Datasheet)", 68 CLK (in) "Clock: CLK is driven by the system clock. All SDRAM input signals are sampled on the positive edge of CLK. CLK also increments the internal burst counter and controls the output registers.", 69 NC "No connect: These pins should be left unconnected. Pin 70 is reserved for SSTL reference voltage supply.", 70 NU "Not Used", 71 DQM1 (in) "Input/output mask: DQM is sampled HIGH and is an input mask signal for write accesses and an output enable signal for read accesses. Input data is masked during a WRITE cycle. The output buffers are High-Z (two-clock (See Datasheet)", 73 NC "No connect: These pins should be left unconnected. Pin 70 is reserved for SSTL reference voltage supply.", 74 DQ8 (io) "Data input/output: Data bus.", 76 DQ9 (io) "Data input/output: Data bus.", 77 DQ10 (io) "Data input/output: Data bus.", 79 DQ11 (io) "Data input/output: Data bus.", 80 DQ12 (io) "Data input/output: Data bus.", 82 DQ13 (io) "Data input/output: Data bus.", 83 DQ14 (io) "Data input/output: Data bus.", 85 DQ15 (io) "Data input/output: Data bus."
part B pins: 1 VDD (power) "Power supply: 3.3V +/-0.3V.", 3 VDDQ (power) "DQ power supply: Isolated on the die for improved noise immunity.", 6 VSSQ (power) "DQ ground: Provides isolated ground to DQs for improved noise immunity.", 9 VDDQ (power) "DQ power supply: Isolated on the die for improved noise immunity.", 12 VSSQ (power) "DQ ground: Provides isolated ground to DQs for improved noise immunity.", 15 VDD (power) "Power supply: 3.3V +/-0.3V.", 29 VDD (power) "Power supply: 3.3V +/-0.3V.", 32 VSSQ (power) "DQ ground: Provides isolated ground to DQs for improved noise immunity.", 35 VDDQ (power) "DQ power supply: Isolated on the die for improved noise immunity.", 38 VSSQ (power) "DQ ground: Provides isolated ground to DQs for improved noise immunity.", 41 VDDQ (power) "DQ power supply: Isolated on the die for improved noise immunity.", 43 VDD (power) "Power supply: 3.3V +/-0.3V.", 44 VSS (power) "Ground.", 46 VSSQ (power) "DQ ground: Provides isolated ground to DQs for improved noise immunity.", 49 VDDQ (power) "DQ power supply: Isolated on the die for improved noise immunity.", 52 VSSQ (power) "DQ ground: Provides isolated ground to DQs for improved noise immunity.", 55 VDDQ (power) "DQ power supply: Isolated on the die for improved noise immunity.", 58 VSS (power) "Ground.", 72 VSS (power) "Ground.", 75 VDDQ (power) "DQ power supply: Isolated on the die for improved noise immunity.", 78 VSSQ (power) "DQ ground: Provides isolated ground to DQs for improved noise immunity.", 81 VDDQ (power) "DQ power supply: Isolated on the die for improved noise immunity.", 84 VSSQ (power) "DQ ground: Provides isolated ground to DQs for improved noise immunity.", 86 VSS (power) "Ground."